# EAGLE library part SSW-107-02-S-T (library con-samtec)
THROUGH-HOLE .025" SQ POST SOCKET Source: Samtec SSW.pdf
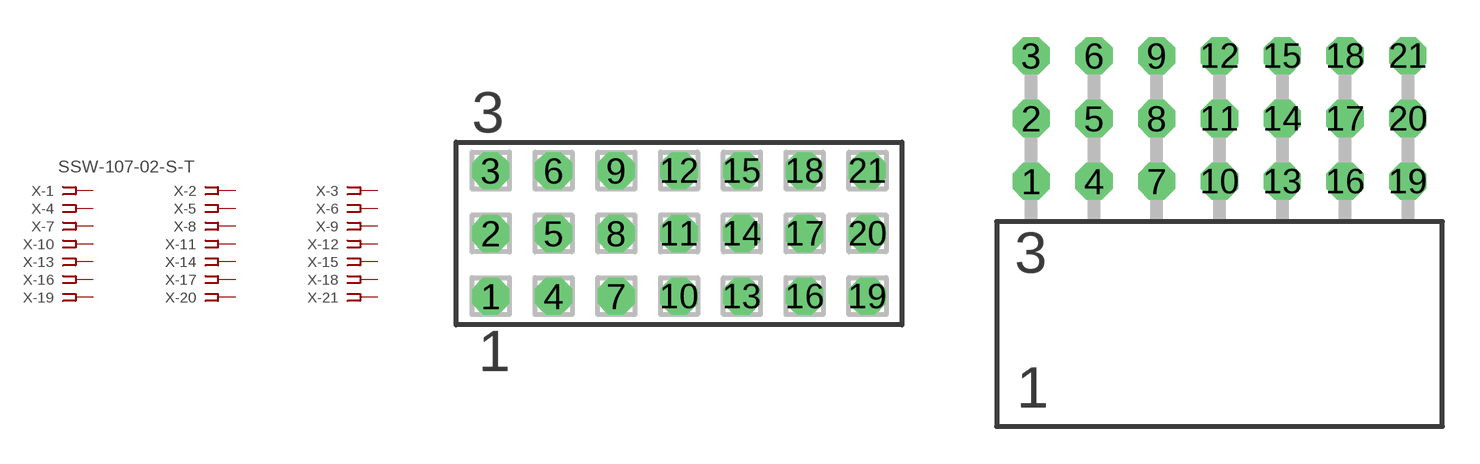
[diagram p49: symbol with the pads of SSW-107-02-S-T; footprints SSW-107-02-S-T, SSW-107-02-S-T-RA]

Designator prefix X; gates -1=FPINV -2=FPIN -3=FPIN -4=FPIN -5=FPIN -6=FPIN -7=FPIN -8=FPIN -9=FPIN -10=FPIN -11=FPIN -12=FPIN -13=FPIN -14=FPIN -15=FPIN -16=FPIN -17=FPIN -18=FPIN -19=FPIN -20=FPIN -21=FPIN

## SSW-107-02-S-T  [SSW-107-02-S-T]
1  -1:1  pas
2  -2:1  pas
3  -3:1  pas
4  -4:1  pas
5  -5:1  pas
6  -6:1  pas
7  -7:1  pas
8  -8:1  pas
9  -9:1  pas
10  -10:1  pas
11  -11:1  pas
12  -12:1  pas
13  -13:1  pas
14  -14:1  pas
15  -15:1  pas
16  -16:1  pas
17  -17:1  pas
18  -18:1  pas
19  -19:1  pas
20  -20:1  pas
21  -21:1  pas

## SSW-107-02-S-TRA  [SSW-107-02-S-T-RA]
Pads as for SSW-107-02-S-T

## Footprint SSW-107-02-S-T (pad centres in mm)
THROUGH-HOLE .025" SQ POST SOCKET Source: Samtec SSW.pdf
drill 1 pad 1.5 octagon: 1 -7.62,-2.54; 2 -7.62,0; 3 -7.62,2.54; 4 -5.08,-2.54; 5 -5.08,0; 6 -5.08,2.54; 7 -2.54,-2.54; 8 -2.54,0; 9 -2.54,2.54; 10 0,-2.54; 11 0,0; 12 0,2.54; 13 2.54,-2.54; 14 2.54,0; 15 2.54,2.54; 16 5.08,-2.54; 17 5.08,0; 18 5.08,2.54; 19 7.62,-2.54; 20 7.62,0; 21 7.62,2.54

## Footprint SSW-107-02-S-T-RA (pad centres in mm)
THROUGH-HOLE .025" SQ POST SOCKET Source: Samtec SSW.pdf
drill 1 pad 1.5 octagon: 1 -7.62,1.524; 2 -7.62,4.064; 3 -7.62,6.604; 4 -5.08,1.524; 5 -5.08,4.064; 6 -5.08,6.604; 7 -2.54,1.524; 8 -2.54,4.064; 9 -2.54,6.604; 10 0,1.524; 11 0,4.064; 12 0,6.604; 13 2.54,1.524; 14 2.54,4.064; 15 2.54,6.604; 16 5.08,1.524; 17 5.08,4.064; 18 5.08,6.604; 19 7.62,1.524; 20 7.62,4.064; 21 7.62,6.604